# EAGLE library part USB_A_X1_SMD (library USB_Connector)
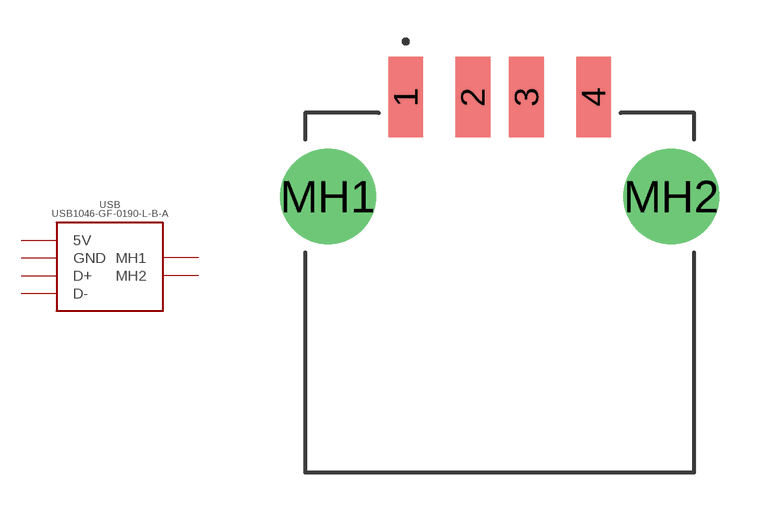
[diagram p2: symbol with the pads of USB_A_X1_SMD; footprint USB_A_X1_SMD]

Designator prefix USB

## USB_A_X1_SMD  [USB_A_X1_SMD]
1  5V
2  D-
3  D+
4  GND
MH1  MH1
MH2  MH2

## Footprint USB_A_X1_SMD (pad centres in mm)
smd 1.3 x 3: 1 -3.5,13.98; 2 -1,13.98; 3 1,13.98; 4 3.5,13.98
drill 2.38 pad 3.57: MH1 -6.4,10.28; MH2 6.4,10.28